# Altium footprint library ExtractedFootprints.PcbLib: 41 footprints (part 3 of 3)
Each footprint in its own frame and in the unit in brackets; x right, y up, seen from the top. Pads: shape width x height; smd on the part's side, far side on the other; paste and mask are expansions set on the pad; w line width, h text height; cw(c..) or ccw(c..) is an arc to the next point about the centre after c.
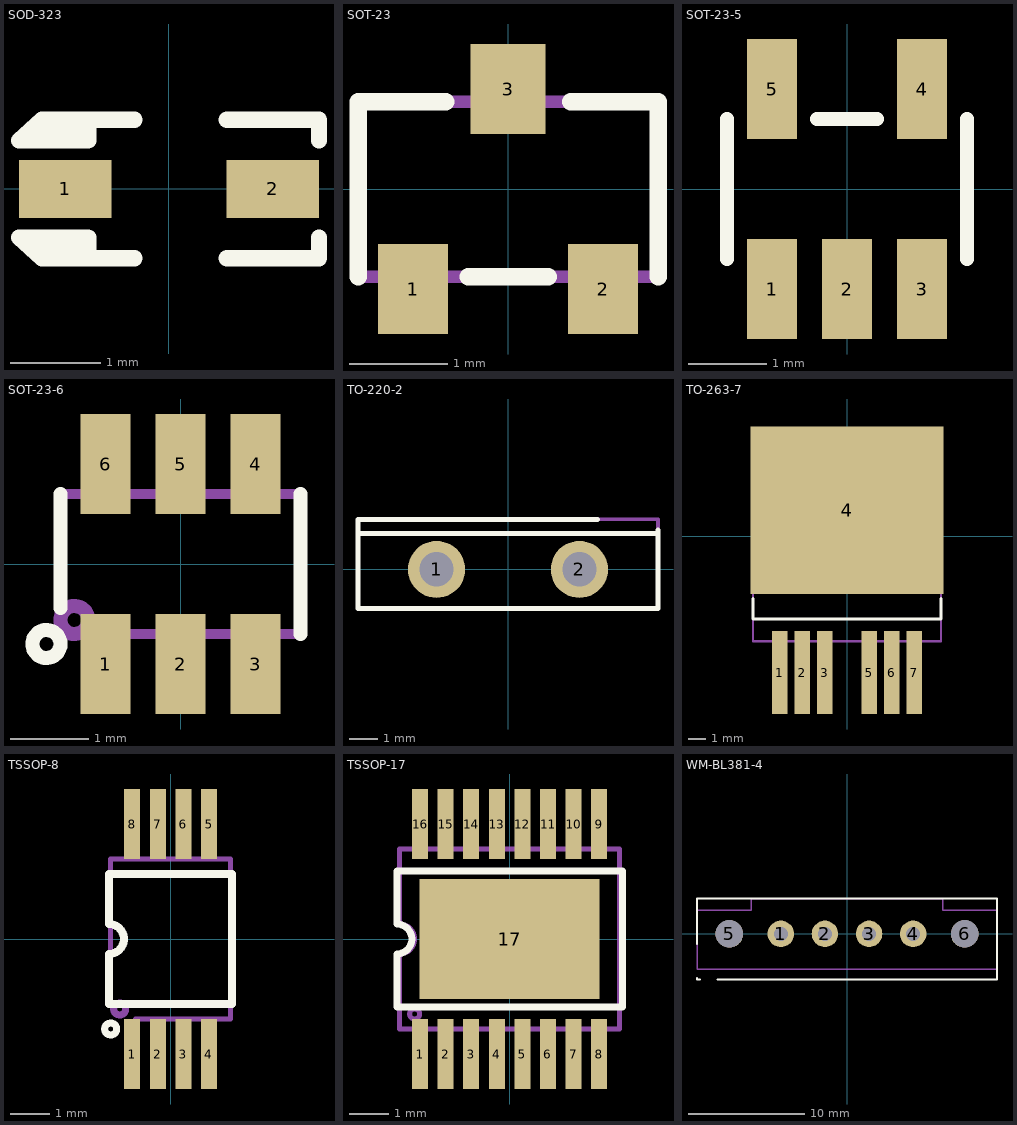
[diagram p2: the footprints below, top view; thin cyan lines are the x and y axes]

## SOD-323 [mil]
height 40
pads (2):
  rect 40x25 smd mask+2: 1(-45,0) 2(45,0)
Top Overlay:
  lines w7: -60,-25 -35,-25 ; -60,25 -35,25 ; -35,-30 -35,-21 -65,-21 -55,-30 -15,-30 ; -35,30 -35,21 -65,21 -55,30 -15,30 ; 25,-30 65,-30 65,-21 ; 25,30 65,30 65,21
Mechanical 2:
  lines w5: -60,-25 -35,-25 ; -60,25 -35,25 ; -35,-30 -35,-21 -65,-21 -55,-30 -15,-30 ; -35,30 -35,21 -65,21 -55,30 -15,30 ; 25,-30 65,-30 65,-21 ; 25,30 65,30 65,21
3D body: height 45.28, standoff 0, extent -53.15,-28.54 53.15,28.55

## SOT-23 [mil]
height 43
pads (3):
  rect 28x36 smd mask+2: 1(-38,-40) 2(38,-40)
  rect 30x36 smd mask+2: 3(0,40)
Top Overlay:
  lines w7: -60,-35 -60,35 -25,35 ; -16,-35 16,-35 ; 25,35 60,35 60,-35
Mechanical 2:
  lines w5: -45,-35 -45,-55 -30,-55 -30,-35 ; -7.5,35 -7.5,55 7.5,55 7.5,35 ; 30,-35 30,-55 45,-55 45,-35 ; -60,-35 -60,35 60,35 60,-35 -60,-35
3D body: height 43.7, standoff 0, extent -59.84,-51.97 59.84,51.97

## SOT-23-5 [mil]
height 157.48
pads (5):
  rect 25x50 smd mask+2: 1(-37.5,-50) 2(0,-50) 3(37.5,-50) 4(37.5,50) 5(-37.5,50)
Top Overlay:
  lines w7: -60,-35 -60,35 ; -15,35 15,35 ; 60,-35 60,35

## SOT-23-6 [mil]
height 57
pads (6):
  rect 25x50 smd mask+2: 1(-37.5,-50) 2(0,-50) 3(37.5,-50) 4(37.5,50) 5(0,50) 6(-37.5,50)
Top Overlay:
  circle w7: c-67,-40 r7
  lines w7: -60,-22 -60,35 ; 60,-35 60,35
Mechanical 2:
  circle w7: c-53,-28 r7
  lines w5: -60,-13 -60,35 60,35 60,-35 -39,-35
3D body: height 57.09, standoff 0, extent -59.05,-59.05 59.06,59.06

## TO-220-2 [mil]
height 180
pads (2):
  round 80 / inner round 60 / far side round 60 hole 48 mask+2: 1(-100,0) 2(100,0)
Top Overlay:
  lines w7: -210,50 210,50 ; 125,70 -210,70 -210,-55 210,-55 210,55
Mechanical 2:
  lines w5: -210,50 210,50 ; -210,-55 210,-55 210,70 -210,70 -210,-55

## TO-263-7 [mil]
height 180
pads (7):
  rect 35x185 smd: 1(-150,-305) 2(-100,-305) 3(-50,-305) 5(50,-305) 6(100,-305) 7(150,-305)
  rect 430x375 smd paste-20: 4(0,57.5)
Top Overlay:
  lines w7: -210,-140 -210,-185 210,-185 210,-140
Mechanical 2:
  lines w5: -210,-235 -210,240 210,240 210,-235 160,-235 160,-390 140,-390 140,-235 110,-235 110,-390 90,-390 90,-235 60,-235 60,-390 40,-390 40,-235 -40,-235 -40,-390 -60,-390 -60,-235 -90,-235 -90,-390 -110,-390 -110,-235 -140,-235 -140,-390 -160,-390 -160,-235 -210,-235

## TSSOP-8 [mil]
height 48
pads (8):
  rect 16x70 smd mask+1: 1(-38.39,-115) 2(-12.8,-115) 3(12.79,-115) 4(38.39,-115) 5(38.39,115) 6(12.79,115) 7(-12.79,115) 8(-38.39,115)
Top Overlay:
  circle w7: c-60,-90 r6
  lines w8: -61.61,-65 61.6,-65 61.6,65 -61.61,65 -61.61,15 cw(c-61.61,0) -61.61,-15 -61.61,-65
Mechanical 2:
  circle w7: c-51,-70 r6
  lines w5: -60,-55 -60,80 60,80 60,-80 -35,-80

## TSSOP-17 [mil]
height 48
pads (17):
  rect 16x70 smd mask+1: 1(-89.57,-115) 2(-63.98,-115) 3(-38.39,-115) 4(-12.8,-115) 5(12.79,-115) 6(38.39,-115) 7(63.98,-115) 8(89.57,-115) 9(89.57,115) 10(63.98,115) 11(38.39,115) 12(12.79,115) 13(-12.79,115) 14(-38.39,115) 15(-63.98,115) 16(-89.57,115)
  rect 180x120 smd mask+1: 17(0,0)
Top Overlay:
  lines w7: -112.8,-68 -112.8,-15 ccw(c-112.8,0) -112.8,15 -112.8,68 112.8,68 112.8,-68 -112.8,-68
Mechanical 2:
  circle w5: c-95,-75 r5
  lines w5: -110,-90 -110,-15 ccw(c-110,0) -110,15 -110,90 110,90 110,-90 -110,-90

## WM-BL381-4 [mil] "Weidmueller BL3.81/4/180F"
height 157.48
pads (6):
  round 90 / inner round 60 / far side round 60 hole 48: 1(-225,0) 2(-75,0) 3(75,0) 4(225,0)
  round 94 hole 94 unplated: 5(-400,0) 6(400,0)
Top Overlay:
  lines w7: -510,-150 -510,-155 -500,-155 ; -510,-35 -510,120 510,120 510,-155 -440,-155
Bottom Overlay:
  text "4" at 200,90 h35
  text "1" at -240,100 h35
Mechanical 2:
  lines w5: -510,-120 510,-120 510,80 325,80 325,120 -325,120 -325,80 -510,80 -510,-120